# Altium footprint library Darlington.PcbLib: 2 footprints
Each footprint in its own frame and in the unit in brackets; x right, y up, seen from the top. Pads: shape width x height; smd on the part's side, far side on the other; paste and mask are expansions set on the pad; w line width, h text height; cw(c..) or ccw(c..) is an arc to the next point about the centre after c.
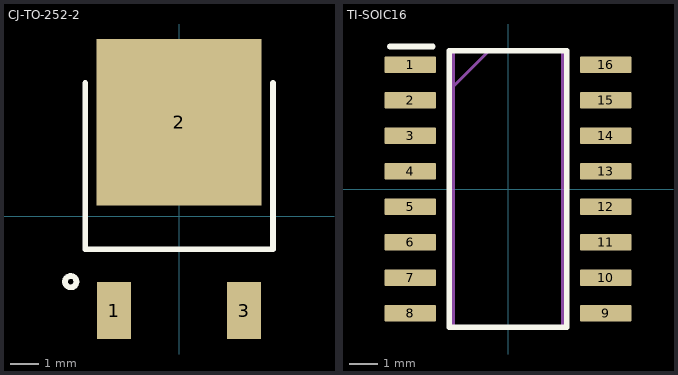
[diagram p0: the footprints below, top view; thin cyan lines are the x and y axes]

## CJ-TO-252-2 [mm] "CJ(江苏长电/长晶) TO-252-2 推荐焊盘"
pads (3):
  rect 1.2x2 smd: 1(-2.285,-3.313) 3(2.285,-3.313)
  rect 5.8x5.85 smd: 2(0,3.313)
Top Overlay:
  circle w0.2: c-3.809,-2.297 r0.2
  lines w0.2: -3.301,4.688 -3.301,-1.154 3.303,-1.154 3.303,4.688
3D body "TO252-2.STEP": height 2.29, standoff 0, extent -3.29,-4.09 3.29,5.85

## TI-SOIC16 [mm] "TI(德州仪器) SOIC-16 推荐封装"
pads (16):
  rrect16% 1.85x0.6 smd mask+0.07: 1(-3.5,4.445) 2(-3.5,3.175) 3(-3.5,1.905) 4(-3.5,0.635) 5(-3.5,-0.635) 6(-3.5,-1.905) 7(-3.5,-3.175) 8(-3.5,-4.445) 9(3.5,-4.445) 10(3.5,-3.175) 11(3.5,-1.905) 12(3.5,-0.635) 13(3.5,0.635) 14(3.5,1.905) 15(3.5,3.175) 16(3.5,4.445)
Top Overlay:
  lines w0.2: -4.225,5.1 -2.7,5.1 ; -2.1,-4.95 -2.1,4.95 2.1,4.95 2.1,-4.95 -2.1,-4.95
Mechanical 15:
  lines w0.1: -1.95,3.68 -0.68,4.95 ; -1.95,-4.95 -1.95,4.95 1.95,4.95 1.95,-4.95 -1.95,-4.95
3D body "SOIC-16.step": height 1.4, standoff 0, extent -3,-4.95 3,4.95